# EAGLE library part ADAFRUIT_SENSOR_AS7341 (library Lagopus_A_3)
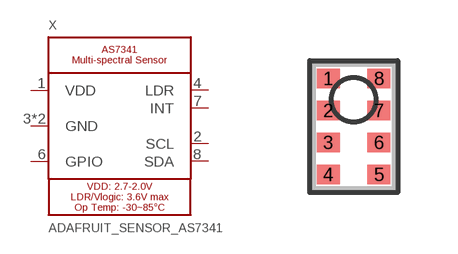
[diagram p4: symbol with the pads of ADAFRUIT_SENSOR_AS7341; footprint ADAFRUIT_SENSOR_AS7341]

Designator prefix X

## ADAFRUIT_SENSOR_AS7341  [ADAFRUIT_SENSOR_AS7341]
1  VDD  pwr
2  SCL  in
3  GND  pwr
4  LDR
5  GND  pwr
6  GPIO  pwr
7  INT  out
8  SDA

## Footprint ADAFRUIT_SENSOR_AS7341 (pad centres in mm)
smd 0.575 x 0.488: 1 -0.635,1.2; 2 -0.635,0.4; 3 -0.635,-0.4; 4 -0.635,-1.2; 5 0.635,-1.2; 6 0.635,-0.4; 7 0.635,0.4; 8 0.635,1.2